# Altium integrated library SWD.IntLib: 1 symbol
Pins are listed as number, name and electrical type; pins without a type are passive.

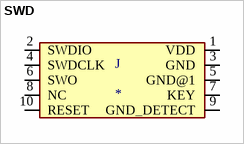
[diagram p0: symbol SWD]

## SWD
designator J
SWD WRITEON W/DISP .75X1.4 LAB; MF: 3M; Price: None; Value: *; Package: None; SnapEDA_Link: https://www.snapeda.com/parts/SWD/3M%20%28TC%29/view-part/172681/?ref=snap; MP: SWD; Availability: Unavailable
footprint 2X10_BOXHEADER
pins: 1 VDD (io), 2 SWDIO (io), 3 GND (io), 4 SWDCLK (io), 5 GND@1 (io), 6 SWO (io), 7 KEY (io), 8 NC (io), 9 GND_DETECT (io), 10 RESET (io)